# Altium footprint library HEXCAL_PCB_LIB.PcbLib: 209 footprints (part 11 of 14)
Each footprint in its own frame and in the unit in brackets; x right, y up, seen from the top. Pads: shape width x height; smd on the part's side, far side on the other; paste and mask are expansions set on the pad; w line width, h text height; cw(c..) or ccw(c..) is an arc to the next point about the centre after c.
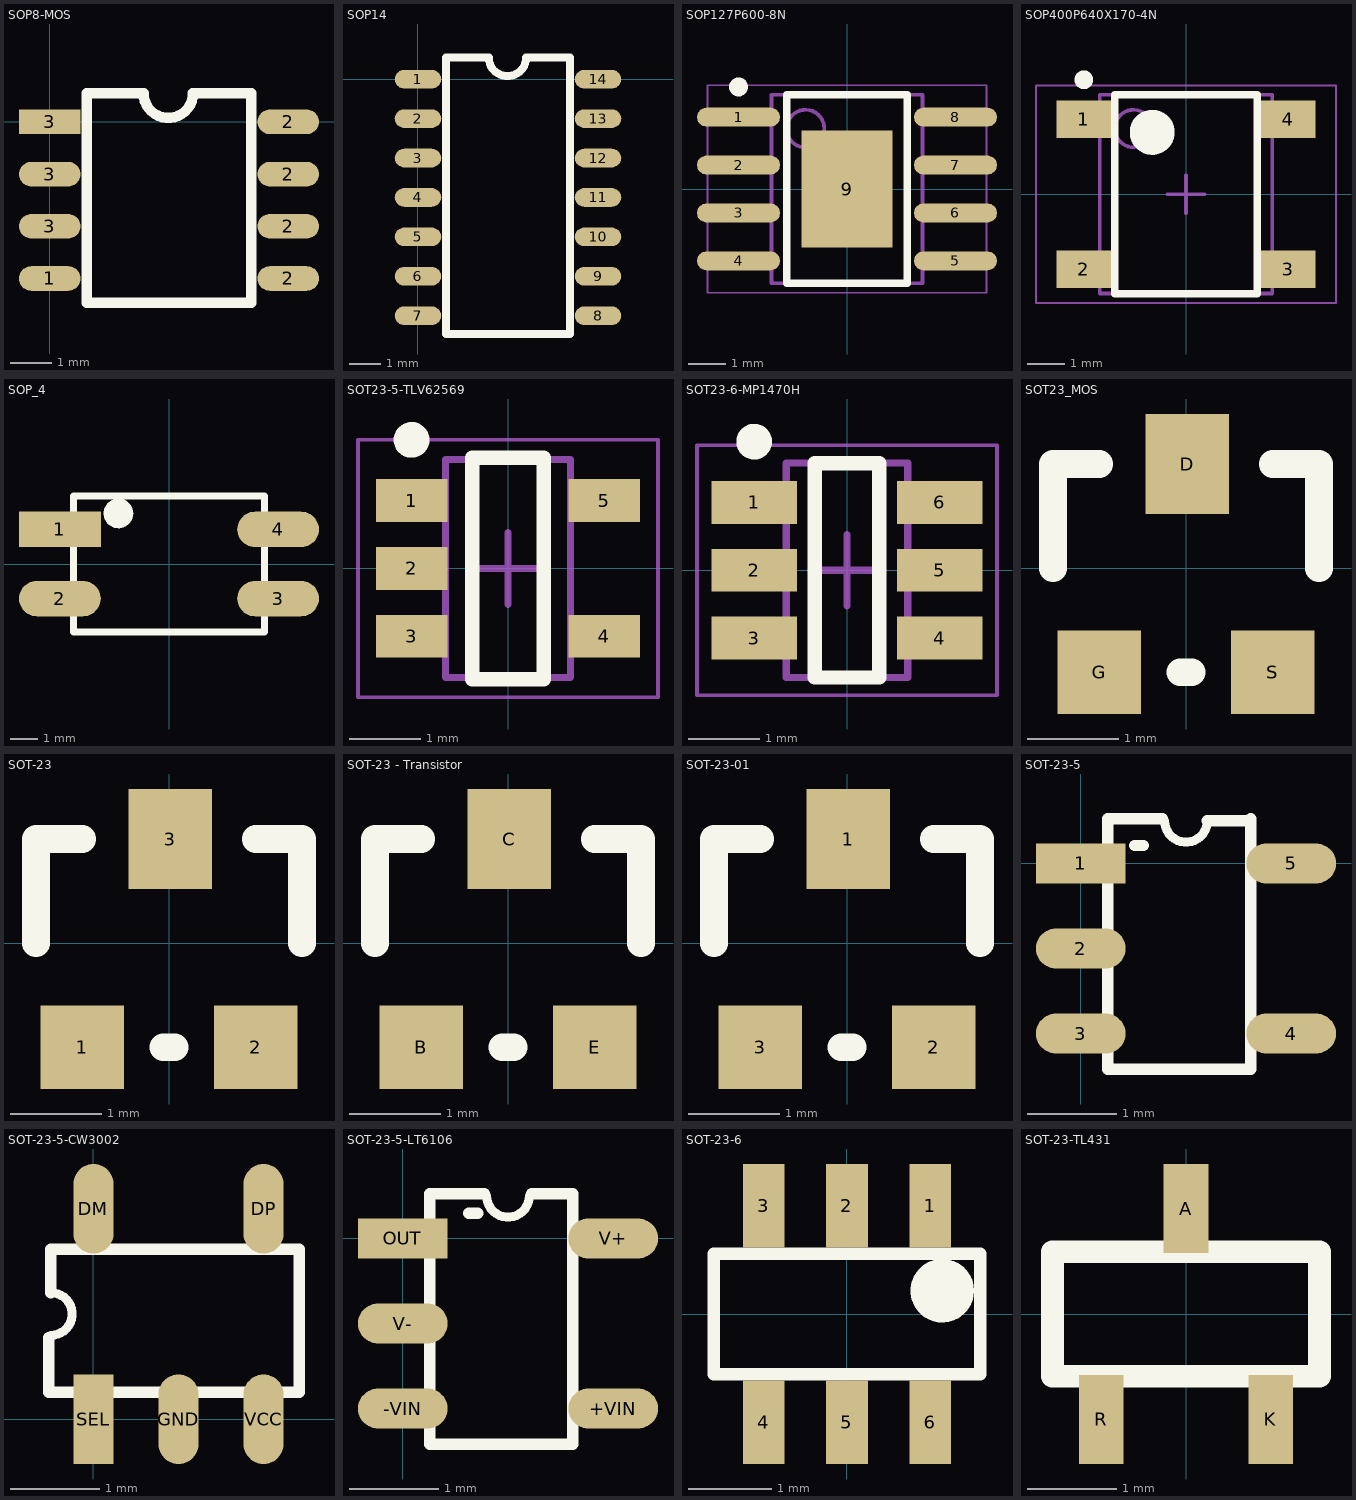
[diagram p10: the footprints below, top view; thin cyan lines are the x and y axes]

## SOP8-MOS [mm]
pads (8):
  oval 1.5x0.6 smd: 1(0,-3.81) 2(5.8,-3.81) 2(5.8,-2.54) 2(5.8,-1.27) 2(5.8,0) 3(0,-2.54) 3(0,-1.27)
  rect 1.5x0.6 smd: 3(0,0)
Top Overlay:
  lines w0.254: 0.9,-4.405 4.9,-4.405 4.9,0.695 3.482,0.695 cw(c2.882,0.695) 2.282,0.695 0.9,0.695 0.9,-4.405

## SOP14 [mm]
pads (14):
  oval 1.5x0.6 smd: 1(0,0) 2(0,-1.27) 3(0,-2.54) 4(0,-3.81) 5(0,-5.08) 6(0,-6.35) 7(0,-7.62) 8(5.8,-7.62) 9(5.8,-6.35) 10(5.8,-5.08) 11(5.8,-3.81) 12(5.8,-2.54) 13(5.8,-1.27) 14(5.8,0)
Top Overlay:
  lines w0.254: 0.9,-8.215 4.9,-8.215 ; 0.9,-8.215 0.9,0.695 2.282,0.695 ccw(c2.882,0.695) 3.482,0.695 4.9,0.695 4.9,-8.215 ; 0.9,-8.215 4.9,-8.215

## SOP127P600-8N [mm]
height 1.7
pads (9):
  oval 2.2x0.5 smd: 1(-2.875,1.905) 2(-2.875,0.635) 3(-2.875,-0.635) 4(-2.875,-1.905) 5(2.875,-1.905) 6(2.875,-0.635) 7(2.875,0.635) 8(2.875,1.905)
  rect 2.4x3.1 smd: 9(0,0)
Top Overlay:
  circle w0.25: c-2.875,2.705 r0.125
  lines w0.2: -1.6,-2.5 1.6,-2.5 1.6,2.5 -1.6,2.5 -1.6,-2.5
Mechanical 13:
  circle w0.1: c-1.1,1.6 r0.5
  lines w0.1: -2,-2.5 2,-2.5 2,2.5 -2,2.5 -2,-2.5
Mechanical 15:
  lines w0.05: -3.7,-2.75 3.7,-2.75 3.7,2.75 -3.7,2.75 -3.7,-2.75
  lines w0.1: -0.5,0 0.5,0 ; 0,-0.5 0,0.5
3D body: height 1.7, standoff 0, extent -3,-2.5 3,2.5

## SOP400P640X170-4N [mm] "SOP, 4-Leads, Body 5.05x4.40mm, Pitch 4.00mm, IPC Medium Density"
height 1.7
pads (4):
  rect 1.45x1 smd: 1(-2.725,2) 2(-2.725,-2) 3(2.725,-2) 4(2.725,2)
Top Overlay:
  circle w0.6: c-0.9,1.65 r0.3
  circle w0.25: c-2.725,3.05 r0.125
  lines w0.2: -1.9,-2.65 1.9,-2.65 1.9,2.65 -1.9,2.65 -1.9,-2.65
Mechanical 13:
  circle w0.1: c-1.4,1.75 r0.5
  lines w0.1: -2.3,-2.65 2.3,-2.65 2.3,2.65 -2.3,2.65 -2.3,-2.65
Mechanical 15:
  lines w0.05: -4,-2.9 4,-2.9 4,2.9 -4,2.9 -4,-2.9
  lines w0.1: -0.5,0 0.5,0 ; 0,-0.5 0,0.5
3D body: height 1.7, standoff 0.2, extent -2.3,-2.65 2.3,2.65

## SOP_4 [mm]
pads (4):
  rect 3x1.3 smd: 1(-4,1.27)
  oval 3x1.3 smd: 2(-4,-1.27) 3(4,-1.27) 4(4,1.27)
Top Overlay:
  circle w0.254: c-1.854,1.854 r0.262
  circle w0.254: c-1.854,1.854 r0.051
  circle w0.254: c-1.854,1.854 r0.161
  circle w0.254: c-1.854,1.854 r0.161
  circle w0.254: c-1.854,1.854 r0.419
  lines w0.254: -3.5,-2.5 3.5,-2.5 3.5,2.5 0,2.5 -3.5,2.5 -3.5,-2.5

## SOT23-5-TLV62569 [mm] "SOT23, 5-Leads, Body 2.90x2.65mm, Pitch 0.95mm, IPC Medium Density"
height 1.45
pads (5):
  rect 1x0.6 smd: 1(-1.35,0.95) 2(-1.35,0) 3(-1.35,-0.95) 4(1.35,-0.95) 5(1.35,0.95)
Top Overlay:
  circle w0.25: c-1.35,1.8 r0.125
  lines w0.2: -0.5,-1.55 -0.5,1.55 0.5,1.55 0.5,-1.55 -0.5,-1.55
Mechanical 13:
  lines w0.1: -0.875,-1.525 0.875,-1.525 0.875,1.525 -0.875,1.525 -0.875,-1.525
Mechanical 15:
  lines w0.05: -2.1,-1.8 2.1,-1.8 2.1,1.8 -2.1,1.8 -2.1,-1.8
  lines w0.1: -0.5,0 0.5,0 ; 0,-0.5 0,0.5
3D body: height 1.45, standoff 0, extent -1.5,-1.525 1.5,1.525

## SOT23-6-MP1470H [mm]
height 0.8
pads (6):
  rect 1.2x0.6 smd: 1(-1.3,0.95) 2(-1.3,0) 3(-1.3,-0.95) 4(1.3,-0.95) 5(1.3,0) 6(1.3,0.95)
Top Overlay:
  circle w0.25: c-1.3,1.8 r0.125
  lines w0.2: -0.45,-1.5 0.45,-1.5 0.45,1.5 -0.45,1.5 -0.45,-1.5
Mechanical 13:
  lines w0.1: -0.85,-1.5 -0.85,1.5 0.85,1.5 0.85,-1.5 -0.85,-1.5
Mechanical 15:
  lines w0.05: -2.1,-1.75 -2.1,1.75 2.1,1.75 2.1,-1.75 -2.1,-1.75
  lines w0.1: -0.5,0 0.5,0 ; 0,-0.5 0,0.5
3D body: height 0.8, standoff 0, extent -1.5,-1.5 1.5,1.5

## SOT23_MOS [mil]
height 275.59
pads (3):
  rect 36x43.31 smd: D(0.5,45)
  rect 36x36 smd: G(-37.5,-45) S(37.5,-45)
Top Overlay:
  lines w12: -57.5,0 -57.5,45 -37.5,45 ; -2.5,-45 2.5,-45 ; 37.5,45 57.5,45 57.5,0

## SOT-23 [mil]
height 275.59
pads (3):
  rect 36x36 smd: 1(-37.5,-45) 2(37.5,-45)
  rect 36x43.31 smd: 3(0.5,45)
Top Overlay:
  lines w12: -57.5,0 -57.5,45 -37.5,45 ; -2.5,-45 2.5,-45 ; 37.5,45 57.5,45 57.5,0

## SOT-23 - Transistor [mil]
height 275.59
pads (3):
  rect 36x36 smd: B(-37.5,-45) E(37.5,-45)
  rect 36x43.31 smd: C(0.5,45)
Top Overlay:
  lines w12: -57.5,0 -57.5,45 -37.5,45 ; -2.5,-45 2.5,-45 ; 37.5,45 57.5,45 57.5,0

## SOT-23-01 [mil]
height 275.59
pads (3):
  rect 36x43.31 smd: 1(0.5,45)
  rect 36x36 smd: 2(37.5,-45) 3(-37.5,-45)
Top Overlay:
  lines w12: -57.5,0 -57.5,45 -37.5,45 ; -2.5,-45 2.5,-45 ; 37.5,45 57.5,45 57.5,0

## SOT-23-5 [mm]
pads (5):
  rect 1x0.45 smd: 1(0,0)
  oval 1x0.45 smd: 2(0,-0.95) 3(0,-1.9) 4(2.35,-1.9) 5(2.35,0)
Top Overlay:
  lines w0.1: 0.938,0.475 ccw(c1.175,0.475) 1.412,0.475
  lines w0.127: 0.6,0.2 0.7,0.2 ; 0.912,0.5 0.3,0.5 0.3,-2.3 1.9,-2.3 1.9,0.5 1.875,0.475 1.412,0.475

## SOT-23-5-CW3002 [mm]
pads (5):
  oval 0.45x1 smd: DM(0,2.35) DP(1.9,2.35) GND(0.95,0) VCC(1.9,0)
  rect 0.45x1 smd: SEL(0,0)
Top Overlay:
  lines w0.1: -0.475,0.938 ccw(c-0.475,1.175) -0.475,1.412
  lines w0.127: -0.5,0.912 -0.5,0.3 2.3,0.3 2.3,1.9 -0.475,1.9 -0.475,1.412

## SOT-23-5-LT6106 [mm]
pads (5):
  oval 1x0.45 smd: +VIN(2.35,-1.9) -VIN(0,-1.9) V+(2.35,0) V-(0,-0.95)
  rect 1x0.45 smd: OUT(0,0)
Top Overlay:
  lines w0.1: 0.938,0.475 ccw(c1.175,0.475) 1.412,0.475
  lines w0.127: 0.738,0.279 0.838,0.279 ; 0.912,0.5 0.3,0.5 0.3,-2.3 1.9,-2.3 1.9,0.5 1.438,0.5

## SOT-23-6 [mm]
pads (6):
  rect 0.5x1 smd: 1(1,1.3) 2(0,1.3) 3(-1,1.3) 4(-1,-1.3) 5(0,-1.3) 6(1,-1.3)
Top Overlay:
  circle w0.254: c1.143,0.279 r0.051
  circle w0.254: c1.143,0.279 r0.254
  circle w0.127: c1.143,0.279 r0.254
  lines w0.15: -1.6,-0.725 -1.6,0.725 1.6,0.725 1.6,-0.725 1.25,-0.725 -1.6,-0.725

## SOT-23-TL431 [mm]
height 7
pads (3):
  rect 0.5x1 smd: A(0,1.185) K(0.95,-1.185) R(-0.95,-1.185)
Top Overlay:
  lines w0.254: -1.5,-0.7 1.5,-0.7 1.5,0.7 -1.5,0.7 -1.5,-0.7